# Altium footprint library Sprite.PCBLIB: 71 footprints (part 4 of 5)
Each footprint in its own frame and in the unit in brackets; x right, y up, seen from the top. Pads: shape width x height; smd on the part's side, far side on the other; paste and mask are expansions set on the pad; w line width, h text height; cw(c..) or ccw(c..) is an arc to the next point about the centre after c.
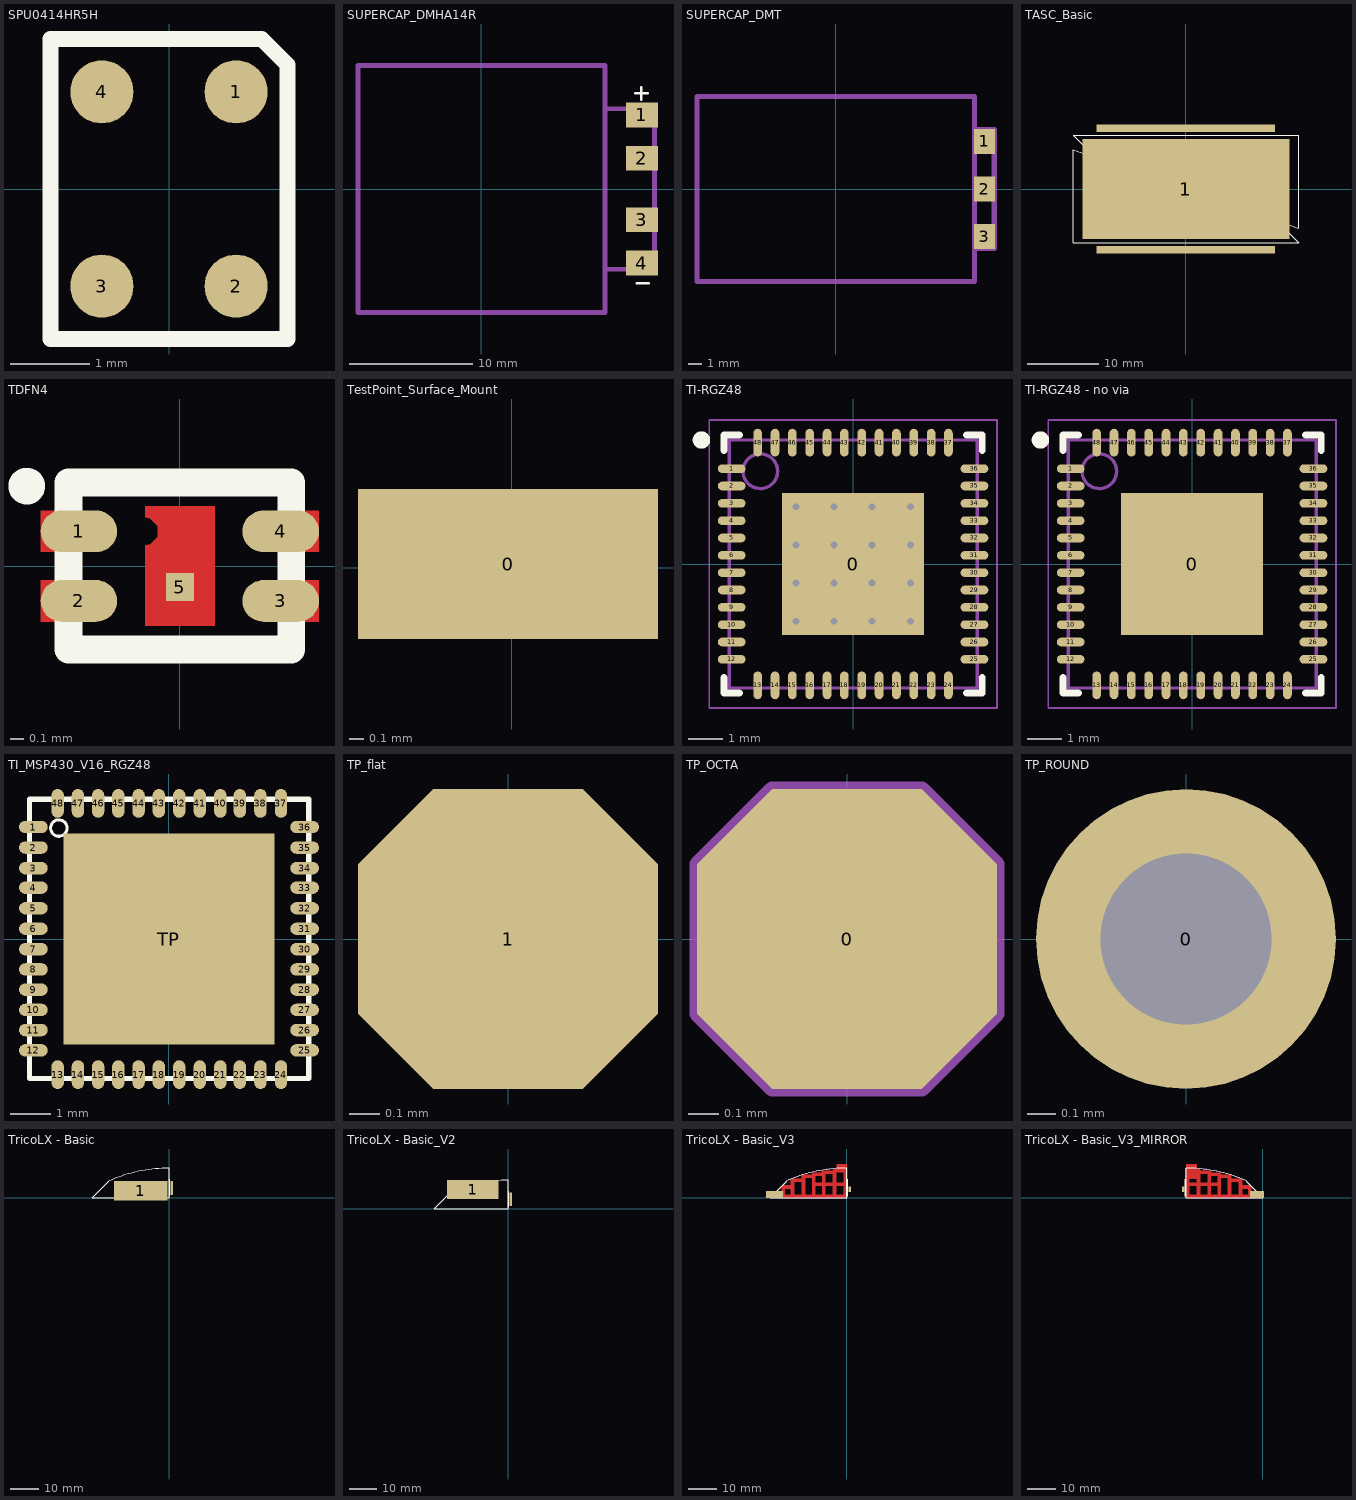
[diagram p3: the footprints below, top view; thin cyan lines are the x and y axes]

## SPU0414HR5H [mm] "Knowles MEMS Mic Analog Top"
pads (4):
  round 0.8 smd: 1(0.85,1.23) 2(0.85,-1.23) 3(-0.85,-1.23) 4(-0.85,1.23)
Top Overlay:
  lines w0.2: -1.5,-1.9 -1.5,1.9 1.175,1.9 1.5,1.575 1.5,-1.9 -1.5,-1.9
3D body: height 1.2, standoff 0, extent -1.5,-1.9 1.5,1.9

## SUPERCAP_DMHA14R [mm] "Murata dual supercap 20x20x0.4mm"
height 0.4
pads (4):
  rect 2.6x2 smd paste-0.25: 1(13,6) 2(13,2.5) 3(13,-2.5) 4(13,-6)
Top Overlay:
  lines w0.2: 12.46,7.74 13.46,7.74 ; 12.57,-7.62 13.57,-7.62 ; 12.96,7.24 12.96,8.24
Mechanical 1:
  lines w0.4: 10,-6.5 14,-6.5 14,6.5 10,6.5 ; -10,-10 10,-10 10,10 -10,10 -10,-10
3D body: height 2, standoff 0, extent 11.625,5 14.375,7
3D body: height 2, standoff 0, extent 11.625,1.5 14.375,3.5
3D body: height 2, standoff 0, extent 11.625,-3.5 14.375,-1.5
3D body: height 2, standoff 0, extent 11.625,-7 14.375,-5

## SUPERCAP_DMT [mm] "Murata dual supercap 21x14x2.2mm"
height 2.5
pads (3):
  rect 1.6x1.9 smd paste-0.2: 1(11.25,3.6) 2(11.25,0) 3(11.25,-3.6)
Mechanical 1:
  lines w0.4: 10.5,-4.5 12,-4.5 12,4.5 10.5,4.5 ; -10.5,-7 -10.5,7 10.5,7 10.5,-7 -10.5,-7
3D body: height 2, standoff 0, extent 10.375,2.75 12,4.75

## TASC_Basic [mil]
pads (3):
  rect 1142x552 smd: 1(0,0)
  rect 985x40 smd: 2(0,-334.65) 3(0,335)
Top Overlay:
  lines w5: -620.08,-295.28 -620.08,217 502,-177.17 621,-295.28 -620.08,-295.28 ; -620.08,296 621,296 621,-216.54 -501.97,178 -620.08,296

## TDFN4 [mm]
pads (5):
  oval 0.55x0.3 smd: 1(-0.725,0.25) 2(-0.725,-0.25) 3(0.725,-0.25) 4(0.725,0.25)
  rect 0.2x0.2 smd paste-0.1 mask-0.1: 5(0,-0.15)
Top Layer:
  rectangle: 0.7,-0.4 1,-0.1
  rectangle: 0.7,0.1 1,0.4
  rectangle: -1,-0.4 -0.7,-0.1
  rectangle: -1,0.1 -0.7,0.4
  region: -0.25,0.15 -0.212,0.158 -0.158,0.212 -0.158,0.288 -0.212,0.342 -0.25,0.35 -0.25,0.43 0.25,0.43 0.25,-0.43 -0.25,-0.43
Top Overlay:
  circle w0.152: c-1.1,0.575 r0.056
  lines w0.2: -0.8,-0.6 0.8,-0.6 0.8,0.6 -0.8,0.6 -0.8,-0.6
3D body: height 0.55, standoff 0, extent -0.8,-0.6 0.8,0.6

## TestPoint_Surface_Mount [mm] "Testpoint 0603 size"
pads (1):
  rect 2.032x1.016 smd: 0(-0.025,0.025)

## TI-RGZ48 [mm] "QFN, 48-Leads, Body 7x7mm, Pitch 0.5mm, Thermal Pad 4.1x4.1mm, IPC Medium Density"
height 1
pads (49):
  rect 4.1x4.1 smd: 0(0,0)
  oval 0.8x0.25 smd: 1(-3.5,2.75) 2(-3.5,2.25) 3(-3.5,1.75) 4(-3.5,1.25) 5(-3.5,0.75) 6(-3.5,0.25) 7(-3.5,-0.25) 8(-3.5,-0.75) 9(-3.5,-1.25) 10(-3.5,-1.75) 11(-3.5,-2.25) 12(-3.5,-2.75) 25(3.5,-2.75) 26(3.5,-2.25) 27(3.5,-1.75) 28(3.5,-1.25) 29(3.5,-0.75) 30(3.5,-0.25) 31(3.5,0.25) 32(3.5,0.75) 33(3.5,1.25) 34(3.5,1.75) 35(3.5,2.25) 36(3.5,2.75)
  oval 0.25x0.8 smd: 13(-2.75,-3.5) 14(-2.25,-3.5) 15(-1.75,-3.5) 16(-1.25,-3.5) 17(-0.75,-3.5) 18(-0.25,-3.5) 19(0.25,-3.5) 20(0.75,-3.5) 21(1.25,-3.5) 22(1.75,-3.5) 23(2.25,-3.5) 24(2.75,-3.5) 37(2.75,3.5) 38(2.25,3.5) 39(1.75,3.5) 40(1.25,3.5) 41(0.75,3.5) 42(0.25,3.5) 43(-0.25,3.5) 44(-0.75,3.5) 45(-1.25,3.5) 46(-1.75,3.5) 47(-2.25,3.5) 48(-2.75,3.5)
via 1.65,-1.65 diameter 0.5 hole 0.2
via 0.55,-1.65 diameter 0.5 hole 0.2
via -0.55,-1.65 diameter 0.5 hole 0.2
via -1.65,-1.65 diameter 0.5 hole 0.2
via 1.65,-0.55 diameter 0.5 hole 0.2
via 0.55,-0.55 diameter 0.5 hole 0.2
via -0.55,-0.55 diameter 0.5 hole 0.2
via -1.65,-0.55 diameter 0.5 hole 0.2
via 1.65,0.55 diameter 0.5 hole 0.2
via 0.55,0.55 diameter 0.5 hole 0.2
via -0.55,0.55 diameter 0.5 hole 0.2
via -1.65,0.55 diameter 0.5 hole 0.2
via 1.65,1.65 diameter 0.5 hole 0.2
via 0.55,1.65 diameter 0.5 hole 0.2
via -0.55,1.65 diameter 0.5 hole 0.2
via -1.65,1.65 diameter 0.5 hole 0.2
Top Overlay:
  circle w0.25: c-4.375,3.575 r0.125
  lines w0.2: -3.725,-3.275 -3.725,-3.725 -3.275,-3.725 ; -3.725,3.275 -3.725,3.725 -3.275,3.725 ; 3.275,-3.725 3.725,-3.725 3.725,-3.275 ; 3.275,3.725 3.725,3.725 3.725,3.275
Mechanical 13:
  circle w0.1: c-2.675,2.675 r0.5
  lines w0.1: -3.575,-3.575 3.575,-3.575 3.575,3.575 -3.575,3.575 -3.575,-3.575
Mechanical 15:
  lines w0.05: -4.15,-4.15 4.15,-4.15 4.15,4.15 -4.15,4.15 -4.15,-4.15
  lines w0.1: -0.5,0 0.5,0 ; 0,-0.5 0,0.5
3D body: height 1, standoff 0, extent -3.575,-3.575 3.575,3.575

## TI-RGZ48 - no via [mm] "QFN, 48-Leads, Body 7x7mm, Pitch 0.5mm, Thermal Pad 4.1x4.1mm, IPC Medium Density"
height 1
pads (49):
  rect 4.1x4.1 smd paste-5: 0(0,0)
  oval 0.8x0.25 smd: 1(-3.5,2.75) 2(-3.5,2.25) 3(-3.5,1.75) 4(-3.5,1.25) 5(-3.5,0.75) 6(-3.5,0.25) 7(-3.5,-0.25) 8(-3.5,-0.75) 9(-3.5,-1.25) 10(-3.5,-1.75) 11(-3.5,-2.25) 12(-3.5,-2.75) 25(3.5,-2.75) 26(3.5,-2.25) 27(3.5,-1.75) 28(3.5,-1.25) 29(3.5,-0.75) 30(3.5,-0.25) 31(3.5,0.25) 32(3.5,0.75) 33(3.5,1.25) 34(3.5,1.75) 35(3.5,2.25) 36(3.5,2.75)
  oval 0.25x0.8 smd: 13(-2.75,-3.5) 14(-2.25,-3.5) 15(-1.75,-3.5) 16(-1.25,-3.5) 17(-0.75,-3.5) 18(-0.25,-3.5) 19(0.25,-3.5) 20(0.75,-3.5) 21(1.25,-3.5) 22(1.75,-3.5) 23(2.25,-3.5) 24(2.75,-3.5) 37(2.75,3.5) 38(2.25,3.5) 39(1.75,3.5) 40(1.25,3.5) 41(0.75,3.5) 42(0.25,3.5) 43(-0.25,3.5) 44(-0.75,3.5) 45(-1.25,3.5) 46(-1.75,3.5) 47(-2.25,3.5) 48(-2.75,3.5)
Top Overlay:
  circle w0.25: c-4.375,3.575 r0.125
  lines w0.2: -3.725,-3.275 -3.725,-3.725 -3.275,-3.725 ; -3.725,3.275 -3.725,3.725 -3.275,3.725 ; 3.275,-3.725 3.725,-3.725 3.725,-3.275 ; 3.275,3.725 3.725,3.725 3.725,3.275
Top Paste:
  rectangle: -1.95,-1.95 -0.85,-0.85
  rectangle: -0.55,-1.95 0.55,-0.85
  rectangle: 0.85,-1.95 1.95,-0.85
  rectangle: -1.95,-0.55 -0.85,0.55
  rectangle: -0.55,-0.55 0.55,0.55
  rectangle: 0.85,-0.55 1.95,0.55
  rectangle: 0.85,0.85 1.95,1.95
  rectangle: -0.55,0.85 0.55,1.95
  rectangle: -1.95,0.85 -0.85,1.95
Mechanical 13:
  circle w0.1: c-2.675,2.675 r0.5
  lines w0.1: -3.575,-3.575 3.575,-3.575 3.575,3.575 -3.575,3.575 -3.575,-3.575
Mechanical 15:
  lines w0.05: -4.15,-4.15 4.15,-4.15 4.15,4.15 -4.15,4.15 -4.15,-4.15
  lines w0.1: -0.5,0 0.5,0 ; 0,-0.5 0,0.5
3D body: height 1, standoff 0, extent -3.575,-3.575 3.575,3.575

## TI_MSP430_V16_RGZ48 [mil]
pads (49):
  rrect100% 28x12 smd: 1(-131.89,109) 2(-131.89,89) 3(-131.89,69) 4(-131.89,50) 5(-131.89,30) 6(-131.89,10) 7(-131.89,-9.84) 8(-131.89,-29.53) 9(-131.89,-49.21) 10(-131.89,-68.9) 11(-131.89,-88.58) 12(-131.89,-108.27) 25(132,-108.27) 26(132,-88.58) 27(132,-68.9) 28(132,-49.21) 29(132,-29.53) 30(132,-9.84) 31(132,10) 32(132,30) 33(132,50) 34(132,69) 35(132,89) 36(132,109)
  rrect100% 12x28 smd: 13(-108.27,-131.89) 14(-88.58,-131.89) 15(-68.9,-131.89) 16(-49.21,-131.89) 17(-29.53,-131.89) 18(-9.84,-131.89) 19(10,-131.89) 20(30,-131.89) 21(50,-131.89) 22(69,-131.89) 23(89,-131.89) 24(109,-131.89) 37(109,132) 38(89,132) 39(69,132) 40(50,132) 41(30,132) 42(10,132) 43(-9.84,132) 44(-29.53,132) 45(-49.21,132) 46(-68.9,132) 47(-88.58,132) 48(-108.27,132)
  rect 205x205 smd: TP(0,0)
Top Overlay:
  circle w3: c-107.09,108 r8
  lines w5: -135.83,-135.83 136,-135.83 136,136 -135.83,136 -135.83,-135.83
Mechanical 2:
  text ">NAME" at -98.43,163 h62
Mechanical 4:
  text ">VALUE" at -102.76,-201.18 h62

## TP_flat [mm]
pads (1):
  oct 1x1 smd: 1(0,0)

## TP_OCTA [mm]
pads (1):
  oct 1x1 smd: 0(0,0)
Mechanical 1:
  lines w0.05: -0.25,0.5 -0.5,0.25 -0.5,-0.25 -0.25,-0.5 0.25,-0.5 0.5,-0.25 0.5,0.25 0.25,0.5 -0.25,0.5 ; -0.25,0.5 -0.25,0.5
3D body: height 0.03, standoff 0, extent -0.5,-0.5 0.5,0.5

## TP_ROUND [mil]
pads (1):
  round 42 hole 24: 0(0,0)

## TricoLX - Basic [mm] "TrisolX Solar Wings"
pads (2):
  rect 19x7 smd: 1(-10,2.5)
  rect 1x5 smd: 2(1,3.5)
Top Overlay:
  lines w0.254: -21.4,5.9 -27.3,0 0,0 0,10.5 ccw(c0,-42) -21.354,5.961 ; 0.3,0.5 0.3,6.5

## TricoLX - Basic_V2 [mm] "TrisolX Solar Wings"
pads (2):
  rect 19x7 smd: 1(-13,7)
  rect 1x5 smd: 2(1,3.5)
Top Overlay:
  lines w0.254: -21.4,5.9 -27.3,0 0,0 0,10.5 ccw(c0,-42) -21.354,5.961 ; 0.3,0.5 0.3,6.5

## TricoLX - Basic_V3 [mm] "TrisolX Solar Wings"
pads (2):
  rect 6x2.5 smd paste-25: 1(-25.75,1.175)
  rect 1x2 smd paste-2: 2(1,2.951)
Top Layer:
  rectangle: -0.85,-0.062 0.1,0.7
  rectangle: -3.75,9.513 0.1,11.925
  lines w1.25: -23,0.55 -0.575,0.55 ; -22.6,0.7 -22.6,3.8 -19.825,3.8 ; -19.325,0.7 -19.325,6.125 -15.475,6.125 ; -15.425,0.6 -15.425,7.55 ; -15.225,7.55 -11.75,7.55 ; -11.8,0.825 -11.8,8.35 ; -11.8,8.4 -8.225,8.4 ; -11.75,4.825 -0.725,4.825 ; -8.375,9.1 -4.425,9.1 -4.425,0.55 ; -8.2,0.575 -8.2,8.4 ; -4.575,9.6 -0.85,9.6 ; -0.525,0.55 -0.525,10.1
Top Overlay:
  lines w0.254: -21.4,5.9 -27.3,0 0,0 0,10.5 ccw(c0,-42) -21.354,5.961 ; 0.3,0.5 0.3,6.5
Top Solder:
  rectangle: -3.912,6.629 -0.152,11.963
  region: -27.538,-0.134 -21.419,6.065 -17.635,7.629 -14.297,8.691 -10.566,9.601 -7.545,10.093 -3.365,10.578 0.116,10.67 0.189,-0.134
Mechanical 13:
  lines w0.254: -21.375,5.925 -27.275,0.025 0.025,0.025 0.025,10.525 ccw(c0.025,-41.975) -21.328,5.987

## TricoLX - Basic_V3_MIRROR [mm] "TrisolX Solar Wings"
pads (2):
  rect 5x2.5 smd paste-25: 1(-2,1.175)
  rect 1x2 smd paste-2: 2(-28.25,2.951)
Top Layer:
  region: -23.5,11.925 -27.35,11.925 -27.35,9.513 -23.5,9.513
  region: -26.4,0.7 -27.35,0.7 -27.35,-0.062 -26.4,-0.062
  region: -23.338,11.963 -27.098,11.963 -27.098,6.629 -23.338,6.629
  lines w1.25: -26.725,0.55 -26.725,10.1 ; -26.675,0.55 -4.25,0.55 ; -26.525,4.825 -15.5,4.825 ; -26.4,9.6 -22.675,9.6 ; -22.825,0.55 -22.825,9.1 -18.875,9.1 ; -19.05,0.575 -19.05,8.4 ; -19.025,8.4 -15.45,8.4 ; -15.5,7.55 -12.025,7.55 ; -15.45,0.825 -15.45,8.35 ; -11.825,0.6 -11.825,7.55 ; -11.775,6.125 -7.925,6.125 -7.925,0.7 ; -7.425,3.8 -4.65,3.8 -4.65,0.7
Top Overlay:
  lines w0.254: -27.55,0.5 -27.55,6.5 ; -5.896,5.961 ccw(c-27.25,-42) -27.25,10.5 -27.25,0 0.05,0 -5.85,5.9
Top Solder:
  region: 0.288,-0.134 -5.831,6.065 -9.615,7.629 -12.953,8.691 -16.684,9.601 -19.705,10.093 -23.885,10.578 -27.366,10.67 -27.439,-0.134
Mechanical 13:
  lines w0.254: -5.922,5.987 ccw(c-27.275,-41.975) -27.275,10.525 -27.275,0.025 0.025,0.025 -5.875,5.925